# EAGLE library part D36V28FX (library D36V28FX)
5V, 3.2A Step-Down Voltage Regulator D36V28F5 Source: Datasheet <https://www.pololu.com/product/3782>
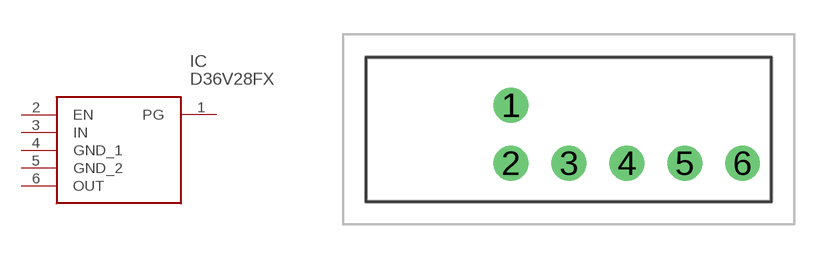
[diagram p0: symbol with the pads of D36V28FX; footprint D36V28FX]

Designator prefix IC

## D36V28FX (DESCRIPTION: 5V, 3.2A Step-Down Voltage Regulator D36V28F5; HEIGHT: 8.77mm; MANUFACTURER_NAME: POLOLU ROBOTICS & ELECTRONICS; MANUFACTURER_PART_NUMBER: D36V28FX)  [D36V28FX]
1  PG
2  EN
3  IN
4  GND_1
5  GND_2
6  OUT

## Footprint D36V28FX (pad centres in mm)
D36V28FX-2
drill 1.02 pad 1.53: 1 0,0; 2 0,-2.54; 3 2.54,-2.54; 4 5.08,-2.54; 5 7.62,-2.54; 6 10.16,-2.54